# EAGLE library part AD8130 (library kamiki)
Low-Cost 270MHz Differential Receiver Amplifiers
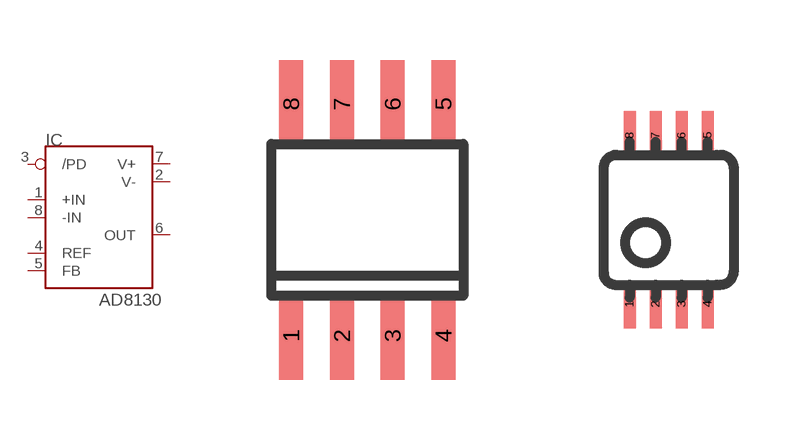
[diagram p1: symbol with the pads of SO08; footprints SO08, TSSOP08]

Designator prefix IC

## AD8130AR  [SO08]
1  +IN  pas
2  V-  pwr
3  /PD  in
4  REF  pas
5  FB  pas
6  OUT  out
7  V+  pwr
8  -IN  pas

## AD8130ARM  [TSSOP08]
Pads as for SO08

## Footprint SO08 (pad centres in mm)
Small Outline Package 8
smd 0.6 x 2.2: 1 -1.905,-2.9; 2 -0.635,-2.9; 3 0.635,-2.9; 4 1.905,-2.9; 5 1.905,2.9; 6 0.635,2.9; 7 -0.635,2.9; 8 -1.905,2.9

## Footprint TSSOP08 (pad centres in mm)
Thin, Shrink Small Outline Package
smd 0.3 x 1.2: 1 -0.976,-2.113; 2 -0.326,-2.113; 3 0.324,-2.113; 4 0.974,-2.113; 5 0.974,2.112; 6 0.324,2.112; 7 -0.326,2.112; 8 -0.976,2.112